# Altium schematic symbol library RT8120.SchLib: 1 symbol
Pins are listed as number, name and electrical type; pins without a type are passive.

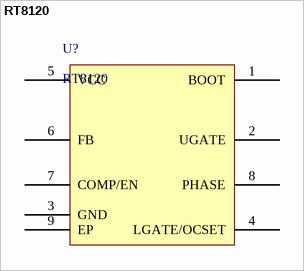
[diagram p0: symbol RT8120]

## RT8120
designator U?
Single-Phase Synchronous Buck PWM Controller
footprint RT8120
pins: 1 BOOT, 2 UGATE, 3 GND (power), 4 LGATE/OCSET, 5 VCC (power), 6 FB, 7 COMP/EN, 8 PHASE, 9 EP (power)